# Altium schematic symbol library SCH - CONNECTORS - MOLEX 22-23-2031.SCHLIB: 1 symbol
Pins are listed as number, name and electrical type; pins without a type are passive.

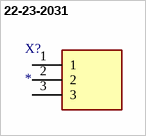
[diagram p0: symbol 22-23-2031]

## 22-23-2031
designator X?
Connector; Manufacturer_Name: Molex; Description: 2.54mm,header,KK,vert,Sn,frictn lock,3w Molex KK 254 Series; Datasheet Link: http://www.molex.com/webdocs/datasheets/pdf/en-us//0022232031_PCB_HEADERS.pdf; Height: 8.18mm; Manufacturer_Part_Number: 22-23-2031; Mouser Part Number: 538-22-23-2031; Mouser Price/Stock: https://www.mouser.co.uk/ProductDetail/Molex/22-23-2031?qs=ILqg114nvd41XyIAFDpXfw%3D%3D
pins: 1, 2, 3